# EAGLE library part CK_1X8 (library CONNECTER)
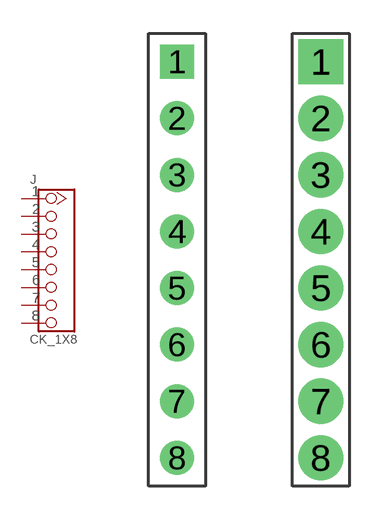
[diagram p1: symbol with the pads of CK_1X8; footprints CK_1X8, CK_1X8_38MIL]

Designator prefix J

## CK_1X8DD  [CK_1X8]
1  P$1
2  P$2
3  P$3
4  P$4
5  P$5
6  P$6
7  P$7
8  P$8

## CK_1X8_TEST  [CK_1X8_38MIL]
Pads as for CK_1X8

## CK_1X8_THIN  [CK_1X8_THIN]
Pads as for CK_1X8

## Footprint CK_1X8 (pad centres in mm)
drill 0.813 pad 1.524 square: 1 0,8.89
drill 0.813 pad 1.524: 2 0,6.35; 3 0,3.81; 4 0,1.27; 5 0,-1.27; 6 0,-3.81; 7 0,-6.35; 8 0,-8.89

## Footprint CK_1X8_38MIL (pad centres in mm)
drill 1.016 pad 2.032 square: 1 0,8.89
drill 1.016 pad 2.032: 2 0,6.35; 3 0,3.81; 4 0,1.27; 5 0,-1.27; 6 0,-3.81; 7 0,-6.35; 8 0,-8.89

## Footprint CK_1X8_THIN (pad centres in mm)
drill 0.813 pad 1.27 square: 1 0,8.89
drill 0.813 pad 1.27: 2 0,6.35; 3 0,3.81; 4 0,1.27; 5 0,-1.27; 6 0,-3.81; 7 0,-6.35; 8 0,-8.89